# Altium schematic symbol library DO-220AA.SchLib: 1 symbol
Pins are listed as number, name and electrical type; pins without a type are passive.

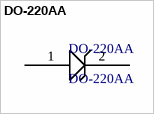
[diagram p0: symbol DO-220AA]

## DO-220AA
designator DO-220AA
footprint DO-220AA
pins: 1, 2